# Altium footprint library ISL6236_V01.PcbLib: 10 footprints
Each footprint in its own frame and in the unit in brackets; x right, y up, seen from the top. Pads: shape width x height; smd on the part's side, far side on the other; paste and mask are expansions set on the pad; w line width, h text height; cw(c..) or ccw(c..) is an arc to the next point about the centre after c.
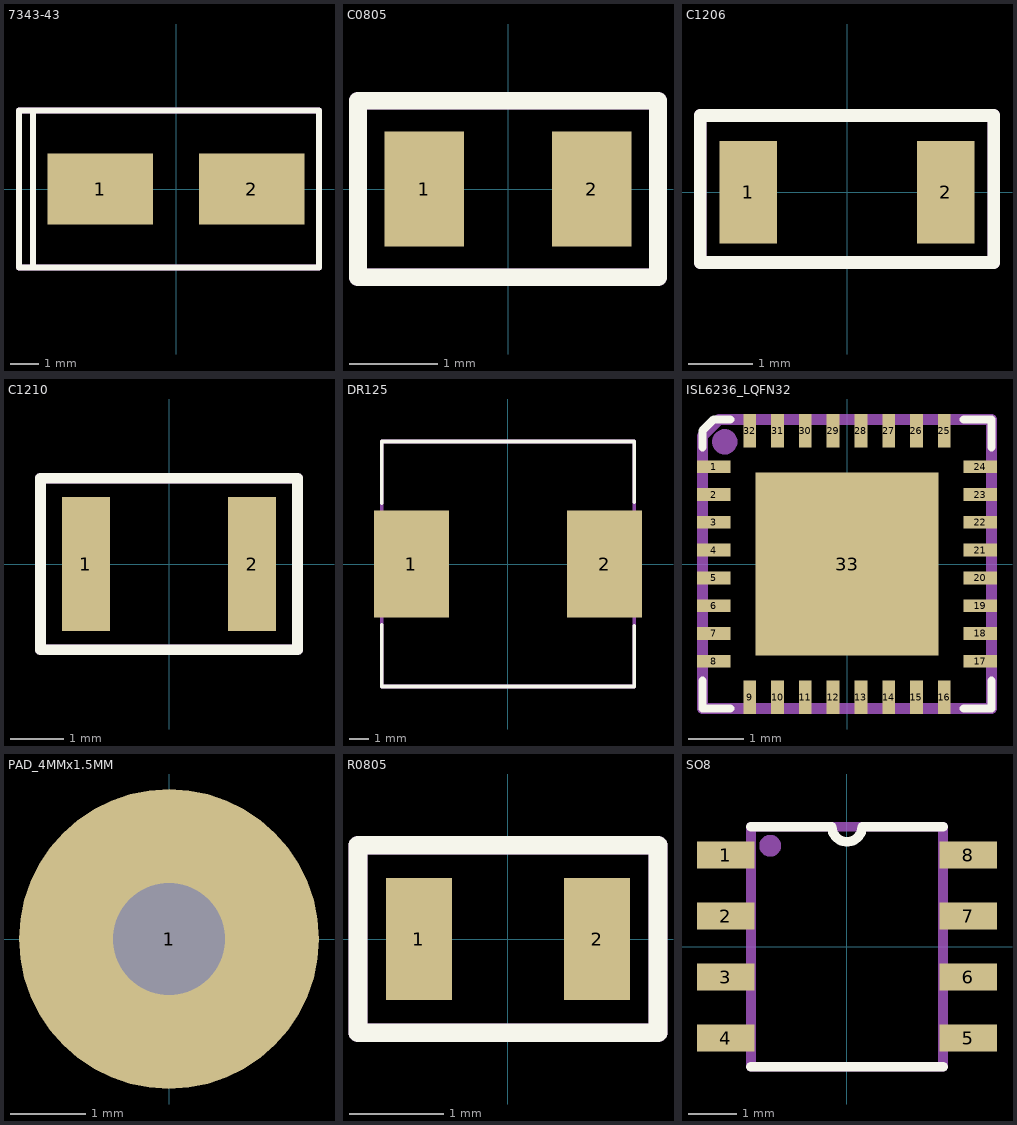
[diagram p0: the footprints below, top view; thin cyan lines are the x and y axes]

## 7343-43 [mm]
pads (2):
  rect 3.75x2.55 smd: 1(-2.7,0) 2(2.7,0)
Top Overlay:
  lines w0.2: -5,-2.8 -5.6,-2.8 -5.6,2.8 -5.1,2.8 ; -5.1,2.8 5.1,2.8 5.1,-2.8 -5.1,-2.8 -5.1,2.8
Mechanical 29:
  lines w0.2: -5.1,-2.8 -5.1,2.8 ; -5.6,-2.8 5.1,-2.8 5.1,2.8 -5.6,2.8 -5.6,-2.8
  text "'.Designator'" at -4.7,-1.1 h2
3D body "T530X337M010ATE004.step": height 4.32, standoff 0.01, extent -3.8,-2.286 3.8,2.314

## C0805 [mm]
pads (2):
  rect 0.9x1.3 smd: 1(-0.95,0) 2(0.95,0)
Top Overlay:
  lines w0.2: -1.7,-1 1.7,-1 1.7,1 -1.7,1 -1.7,-1
Mechanical 29:
  lines w0.2: -1.7,-1 -1.7,1 1.7,1 1.7,-1 -1.7,-1
  text "'.Designator'" at -1.5,-0.4 h0.8
3D body "c0805.STEP": height 1, standoff 0, extent -1,-0.625 1,0.625

## C1206 [mm]
pads (2):
  rect 0.9x1.6 smd: 1(-1.55,0) 2(1.55,0)
Top Overlay:
  lines w0.2: -2.3,-1.1 -2.3,1.2 2.3,1.2 2.3,-1.1 -2.3,-1.1
Mechanical 29:
  lines w0.2: -2.3,-1.1 -2.3,1.2 2.3,1.2 2.3,-1.1 -2.3,-1.1
  text "'.Designator'" at -2.1,-0.4 h0.8
3D body "c1206.STEP": height 1.78, standoff -0.02, extent -1.7,-0.911 1.7,0.889

## C1210 [mm]
pads (2):
  rect 0.9x2.5 smd: 1(-1.55,0) 2(1.55,0)
Top Overlay:
  lines w0.2: -2.4,-1.6 2.4,-1.6 2.4,1.6 -2.4,1.6 -2.4,-1.6
Mechanical 29:
  lines w0.2: -2.4,-1.6 -2.4,1.6 2.4,1.6 2.4,-1.6 -2.4,-1.6
  text "'.Designator'" at -2.2,-0.6 h1
3D body "c1210.STEP": height 2.76, standoff -0.04, extent -1.7,-1.346 1.7,1.354

## DR125 [mm]
pads (2):
  rect 3.85x5.5 smd: 1(-4.975,0) 2(4.975,0)
Top Overlay:
  lines w0.2: -6.5,-6.3 6.5,-6.3 6.5,-3.2 ; -6.5,-6.25 -6.5,-3.15 ; -6.5,3.15 -6.5,6.25 ; -6.5,6.3 6.5,6.3 6.5,3.2
Mechanical 29:
  lines w0.2: -6.5,-6.3 6.5,-6.3 6.5,6.3 -6.5,6.3 -6.5,-6.3
  text "'.Designator'" at -6.2,-1.4 h2
3D body "DR125_Inductor.STEP": height 5.81, standoff -0.19, extent -6.25,-6.25 6.25,6.25

## ISL6236_LQFN32 [mm]
pads (33):
  rect 0.6x0.23 smd mask+0.05: 1(-2.4,1.75) 2(-2.4,1.25) 3(-2.4,0.75) 4(-2.4,0.25) 5(-2.4,-0.25) 6(-2.4,-0.75) 7(-2.4,-1.25) 8(-2.4,-1.75) 17(2.4,-1.75) 18(2.4,-1.25) 19(2.4,-0.75) 20(2.4,-0.25) 21(2.4,0.25) 22(2.4,0.75) 23(2.4,1.25) 24(2.4,1.75)
  rect 0.23x0.6 smd mask+0.05: 9(-1.75,-2.4) 10(-1.25,-2.4) 11(-0.75,-2.4) 12(-0.25,-2.4) 13(0.25,-2.4) 14(0.75,-2.4) 15(1.25,-2.4) 16(1.75,-2.4) 25(1.75,2.4) 26(1.25,2.4) 27(0.75,2.4) 28(0.25,2.4) 29(-0.25,2.4) 30(-0.75,2.4) 31(-1.25,2.4) 32(-1.75,2.4)
  rect 3.3x3.3 smd mask+0.05: 33(0,0)
Top Overlay:
  lines w0.15: -2.6,-2.1 -2.6,-2.6 -2.1,-2.6 ; -2.6,2.1 -2.6,2.4 -2.4,2.6 -2.1,2.6 ; 2.1,-2.6 2.6,-2.6 2.6,-2.1 ; 2.1,2.6 2.6,2.6 2.6,2.1
Mechanical 29:
  circle w0.254: c-2.2,2.2 r0.1
  lines w0.2: -2.6,-2.6 -2.6,2.3 -2.3,2.6 2.6,2.6 2.6,-2.6 -2.6,-2.6
  text "'.Designator'" at -2.3,-0.7 h1
3D body "QFN32_5X5_INR.step": height 0.99, standoff 0, extent -2.502,-2.502 2.502,2.502

## PAD_4MMx1.5MM [mm]
pads (1):
  round 4 hole 1.5: 1(0,0)

## PCBComponent_1 [mm]

## R0805 [mm]
pads (2):
  rect 0.7x1.3 smd: 1(-0.95,0) 2(0.95,0)
Top Overlay:
  lines w0.2: -1.6,-1 1.6,-1 1.6,1 -1.6,1 -1.6,-1
Mechanical 29:
  lines w0.2: -1.6,-1 -1.6,1 1.6,1 1.6,-1 -1.6,-1
  text "'.Designator'" at -1.4,-0.4 h0.8
3D body "r0805.STEP": height 0.58, standoff -0.02, extent -1,-0.625 1,0.625

## SO8 [mm]
pads (8):
  rect 1.195x0.56 smd: 1(-2.527,1.905) 2(-2.527,0.635) 3(-2.527,-0.635) 4(-2.527,-1.905) 5(2.528,-1.905) 6(2.528,-0.635) 7(2.528,0.635) 8(2.528,1.905)
Top Overlay:
  lines w0.2: -2,-2.5 2,-2.5 ; -2,2.5 -0.318,2.5 ccw(c0,2.5) 0.318,2.5 2,2.5
Mechanical 29:
  circle w0.254: c-1.6,2.1 r0.1
  lines w0.2: -2,-2.5 2,-2.5 2,2.5 -2,2.5 -2,-2.5
  text "'.Designator'" at -1.7,-0.8 h1
3D body "8-SOIC.step": height 1.7, standoff 0, extent -3,-2.45 3,2.45